# Altium footprint library AMS_family.PcbLib: 7 footprints
Each footprint in its own frame and in the unit in brackets; x right, y up, seen from the top. Pads: shape width x height; smd on the part's side, far side on the other; paste and mask are expansions set on the pad; w line width, h text height; cw(c..) or ccw(c..) is an arc to the next point about the centre after c.
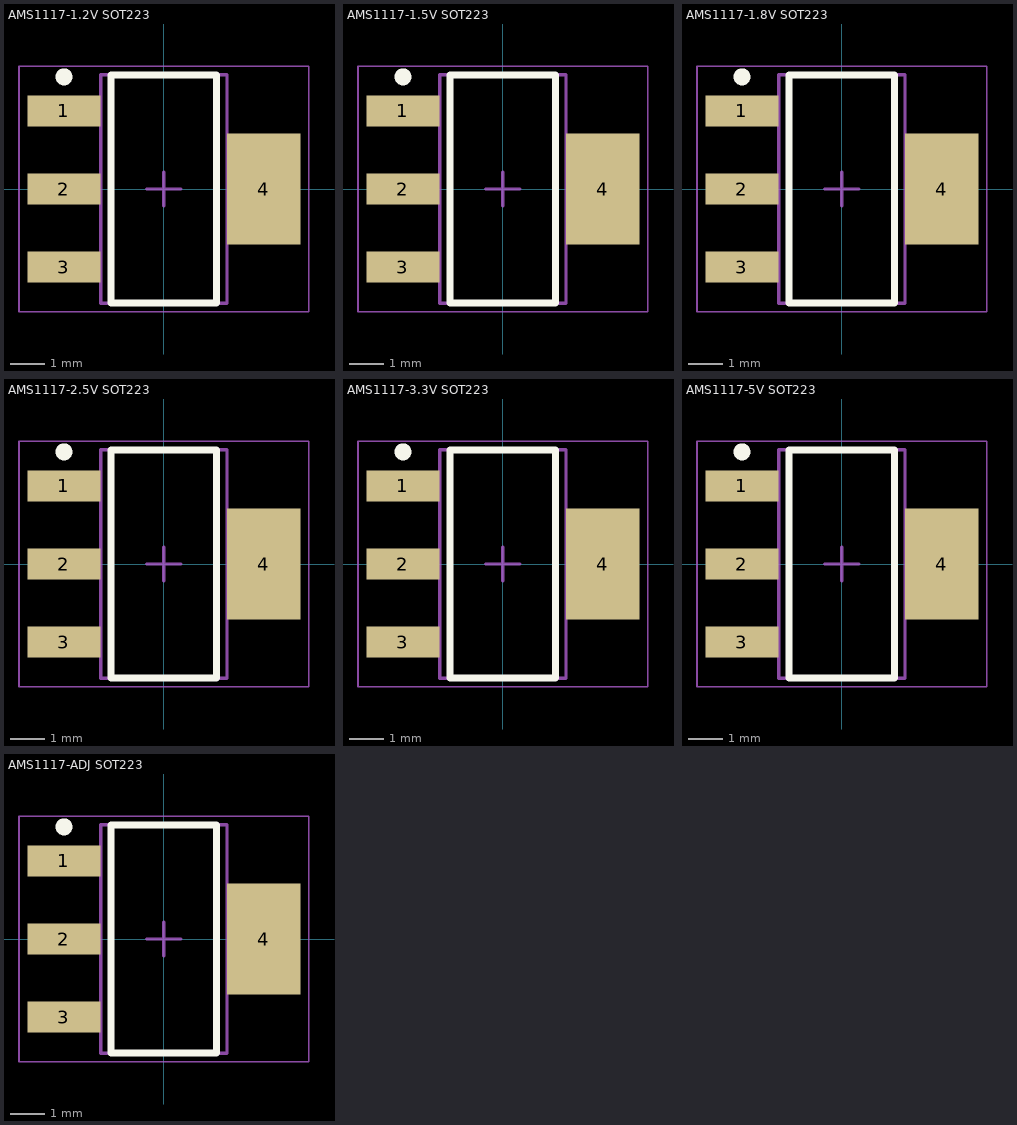
[diagram p0: the footprints below, top view; thin cyan lines are the x and y axes]

## AMS1117-1.2V SOT223 [mm] "SOT223, 4-Leads, Body 6.51x7.00mm, Pitch 2.29mm"
height 1.8
pads (4):
  rect 2.15x0.9 smd: 1(-2.93,2.29) 2(-2.93,0) 3(-2.93,-2.29)
  rect 2.15x3.25 smd: 4(2.93,0)
Top Overlay:
  circle w0.25: c-2.93,3.29 r0.125
  lines w0.2: -1.55,-3.35 -1.55,3.35 1.55,3.35 1.55,-3.35 -1.55,-3.35
Top Designator:
  text ".Designator" at -5.998,-0.4 h1.2
Mechanical 13:
  lines w0.1: -1.855,-3.355 -1.855,3.355 1.855,3.355 1.855,-3.355 -1.855,-3.355
Mechanical 15:
  lines w0.05: -4.25,-3.6 -4.25,3.6 4.25,3.6 4.25,-3.6 -4.25,-3.6
  lines w0.1: -0.5,0 0.5,0 ; 0,-0.5 0,0.5
3D body "SOT229P700X180-4N.step": height 1.8, standoff 0, extent -3.5,-3.355 3.5,3.355

## AMS1117-1.5V SOT223 [mm] "SOT223, 4-Leads, Body 6.51x7.00mm, Pitch 2.29mm"
height 1.8
pads (4):
  rect 2.15x0.9 smd: 1(-2.93,2.29) 2(-2.93,0) 3(-2.93,-2.29)
  rect 2.15x3.25 smd: 4(2.93,0)
Top Overlay:
  circle w0.25: c-2.93,3.29 r0.125
  lines w0.2: -1.55,-3.35 1.55,-3.35 1.55,3.35 -1.55,3.35 -1.55,-3.35
Top Designator:
  text ".Designator" at -5.998,-0.4 h1.2
Mechanical 13:
  lines w0.1: -1.855,-3.355 1.855,-3.355 1.855,3.355 -1.855,3.355 -1.855,-3.355
Mechanical 15:
  lines w0.05: -4.25,-3.6 4.25,-3.6 4.25,3.6 -4.25,3.6 -4.25,-3.6
  lines w0.1: -0.5,0 0.5,0 ; 0,-0.5 0,0.5
3D body "SOT229P700X180-4N.step": height 1.8, standoff 0, extent -3.5,-3.355 3.5,3.355

## AMS1117-1.8V SOT223 [mm] "SOT223, 4-Leads, Body 6.51x7.00mm, Pitch 2.29mm"
height 1.8
pads (4):
  rect 2.15x0.9 smd: 1(-2.93,2.29) 2(-2.93,0) 3(-2.93,-2.29)
  rect 2.15x3.25 smd: 4(2.93,0)
Top Overlay:
  circle w0.25: c-2.93,3.29 r0.125
  lines w0.2: -1.55,-3.35 -1.55,3.35 1.55,3.35 1.55,-3.35 -1.55,-3.35
Top Designator:
  text ".Designator" at -5.998,-0.4 h1.2
Mechanical 13:
  lines w0.1: -1.855,-3.355 -1.855,3.355 1.855,3.355 1.855,-3.355 -1.855,-3.355
Mechanical 15:
  lines w0.05: -4.25,-3.6 -4.25,3.6 4.25,3.6 4.25,-3.6 -4.25,-3.6
  lines w0.1: -0.5,0 0.5,0 ; 0,-0.5 0,0.5
3D body "SOT229P700X180-4N.step": height 1.8, standoff 0, extent -3.5,-3.355 3.5,3.355

## AMS1117-2.5V SOT223 [mm] "SOT223, 4-Leads, Body 6.51x7.00mm, Pitch 2.29mm"
height 1.8
pads (4):
  rect 2.15x0.9 smd: 1(-2.93,2.29) 2(-2.93,0) 3(-2.93,-2.29)
  rect 2.15x3.25 smd: 4(2.93,0)
Top Overlay:
  circle w0.25: c-2.93,3.29 r0.125
  lines w0.2: -1.55,-3.35 -1.55,3.35 1.55,3.35 1.55,-3.35 -1.55,-3.35
Top Designator:
  text ".Designator" at -5.998,-0.4 h1.2
Mechanical 13:
  lines w0.1: -1.855,-3.355 -1.855,3.355 1.855,3.355 1.855,-3.355 -1.855,-3.355
Mechanical 15:
  lines w0.05: -4.25,-3.6 -4.25,3.6 4.25,3.6 4.25,-3.6 -4.25,-3.6
  lines w0.1: -0.5,0 0.5,0 ; 0,-0.5 0,0.5
3D body "SOT229P700X180-4N.step": height 1.8, standoff 0, extent -3.5,-3.355 3.5,3.355

## AMS1117-3.3V SOT223 [mm] "SOT223, 4-Leads, Body 6.51x7.00mm, Pitch 2.29mm"
height 1.8
pads (4):
  rect 2.15x0.9 smd: 1(-2.93,2.29) 2(-2.93,0) 3(-2.93,-2.29)
  rect 2.15x3.25 smd: 4(2.93,0)
Top Overlay:
  circle w0.25: c-2.93,3.29 r0.125
  lines w0.2: -1.55,-3.35 1.55,-3.35 1.55,3.35 -1.55,3.35 -1.55,-3.35
Top Designator:
  text ".Designator" at -5.998,-0.4 h1.2
Mechanical 13:
  lines w0.1: -1.855,-3.355 1.855,-3.355 1.855,3.355 -1.855,3.355 -1.855,-3.355
Mechanical 15:
  lines w0.05: -4.25,-3.6 4.25,-3.6 4.25,3.6 -4.25,3.6 -4.25,-3.6
  lines w0.1: -0.5,0 0.5,0 ; 0,-0.5 0,0.5
3D body "SOT229P700X180-4N.step": height 1.8, standoff 0, extent -3.5,-3.355 3.5,3.355

## AMS1117-5V SOT223 [mm] "SOT223, 4-Leads, Body 6.51x7.00mm, Pitch 2.29mm"
height 1.8
pads (4):
  rect 2.15x0.9 smd: 1(-2.93,2.29) 2(-2.93,0) 3(-2.93,-2.29)
  rect 2.15x3.25 smd: 4(2.93,0)
Top Overlay:
  circle w0.25: c-2.93,3.29 r0.125
  lines w0.2: -1.55,-3.35 -1.55,3.35 1.55,3.35 1.55,-3.35 -1.55,-3.35
Top Designator:
  text ".Designator" at -5.998,-0.4 h1.2
Mechanical 13:
  lines w0.1: -1.855,-3.355 -1.855,3.355 1.855,3.355 1.855,-3.355 -1.855,-3.355
Mechanical 15:
  lines w0.05: -4.25,-3.6 -4.25,3.6 4.25,3.6 4.25,-3.6 -4.25,-3.6
  lines w0.1: -0.5,0 0.5,0 ; 0,-0.5 0,0.5
3D body "SOT229P700X180-4N.step": height 1.8, standoff 0, extent -3.5,-3.355 3.5,3.355

## AMS1117-ADJ SOT223 [mm] "SOT223, 4-Leads, Body 6.51x7.00mm, Pitch 2.29mm"
height 1.8
pads (4):
  rect 2.15x0.9 smd: 1(-2.93,2.29) 2(-2.93,0) 3(-2.93,-2.29)
  rect 2.15x3.25 smd: 4(2.93,0)
Top Overlay:
  circle w0.25: c-2.93,3.29 r0.125
  lines w0.2: -1.55,-3.35 1.55,-3.35 1.55,3.35 -1.55,3.35 -1.55,-3.35
Top Designator:
  text ".Designator" at -5.998,-0.4 h1.2
Mechanical 13:
  lines w0.1: -1.855,-3.355 1.855,-3.355 1.855,3.355 -1.855,3.355 -1.855,-3.355
Mechanical 15:
  lines w0.05: -4.25,-3.6 4.25,-3.6 4.25,3.6 -4.25,3.6 -4.25,-3.6
  lines w0.1: -0.5,0 0.5,0 ; 0,-0.5 0,0.5
3D body "SOT229P700X180-4N.step": height 1.8, standoff 0, extent -3.5,-3.355 3.5,3.355